# Altium schematic symbol library SlideSwitch.SchLib: 4 symbols
Pins are listed as number, name and electrical type; pins without a type are passive.

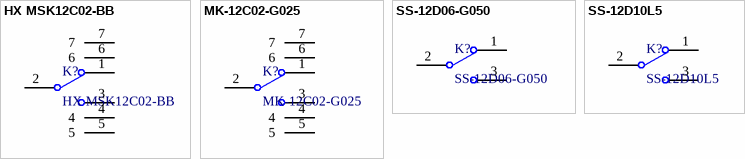
[diagram p0: symbols HX MSK12C02-BB to SS-12D10L5]

## HX MSK12C02-BB
designator K?
hanxia(韩下) 拨动开关 MSK12C02两档侧拨贴片 7脚拨动 白柄,柄长1.5mm,带定位柱; 制造商: G-Switch(品赞); 封装: SMD; 类别: 滑动开关; 子类别: 单刀双掷; 安装方式: SMD贴片; 长宽高: 16.6mm*1.4mm*5.2mm; 额定电压: 6V; 额定电流: 1A; 作用力: -
pins: 1, 2, 3, 4, 5, 6, 7

## MK-12C02-G025
designator K?
G-Switch(品赞) MK-12C02-G025 柄长2.5mm 滑动开关; 封装: SMD; 子类别: 单刀双掷; 安装方式: SMD贴片; 长宽高: 16.6mm*1.4mm*5.2mm; 额定电压: 6V; 额定电流: 1A; 制造商: G-Switch(品赞); 类别: 滑动开关; 作用力: -
footprint MK-12C02-G025 (G-Switch(品赞) MK-12C02-G025 柄长2.5mm 滑动开关 推荐封装)
pins: 1, 2, 3, 4, 5, 6, 7

## SS-12D06-G050
designator K?
G-Switch(品赞) SS-12D06G5 柄长5mm 滑动开关; 封装: DIP; 子类别: 单刀双掷; 安装方式: 直插; 长宽高: 12.7mm*6.6mm*11.4mm; 额定电压: 250V; 额定电流: 3A; 制造商: G-Switch(品赞); 类别: 滑动开关; 作用力: -
footprint SS12D06G5 (G-Switch(品赞) SS-12D06G5 柄长5mm 滑动开关 推荐封装)
pins: 1, 2, 3

## SS-12D10L5
designator K?
XKB Connection(中国星坤) SS-12D10L5 柄长5mm 直插双档 滑动开关; 封装: DIP; 子类别: 单刀双掷; 安装方式: 直插; 长宽高: 13mm*6.8mm*6.4mm; 额定电压: 125V; 制造商: XKB Connection(中国星坤); 类别: 滑动开关; 作用力: -
footprint SS-12D10L5 (XKB Connection(中国星坤) SS-12D10L5 直插滑动开关推荐封装 / 孔径待确认，比3D模型小一点)
pins: 1, 2, 3